# EAGLE library part 24PINSMT (library scono)
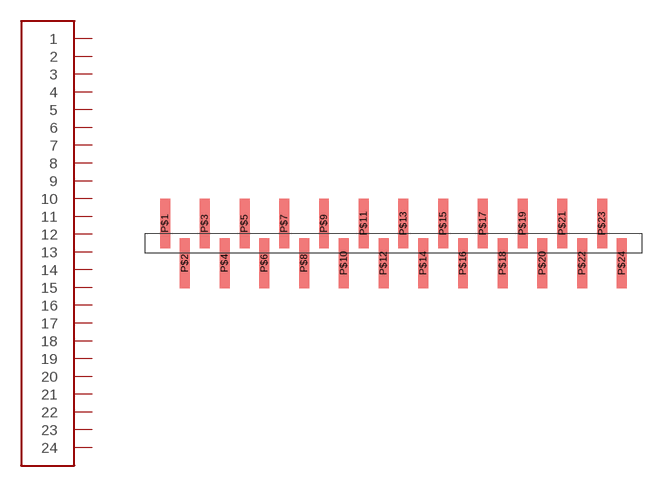
[diagram p25: symbol with the pads of 24SMT; footprint 24SMT]

Designator prefix -

## 24PINSMT  [24SMT]
P$1  1
P$2  2
P$3  3
P$4  4
P$5  5
P$6  6
P$7  7
P$8  8
P$9  9
P$10  10
P$11  11
P$12  12
P$13  13
P$14  14
P$15  15
P$16  16
P$17  17
P$18  18
P$19  19
P$20  20
P$21  21
P$22  22
P$23  23
P$24  24

## Footprint 24SMT (pad centres in mm)
smd 1.27 x 6.35: P$1 -1.27,2.54; P$2 1.27,-2.54; P$3 3.81,2.54; P$4 6.35,-2.54; P$5 8.89,2.54; P$6 11.43,-2.54; P$7 13.97,2.54; P$8 16.51,-2.54; P$9 19.05,2.54; P$10 21.59,-2.54; P$11 24.13,2.54; P$12 26.67,-2.54; P$13 29.21,2.54; P$14 31.75,-2.54; P$15 34.29,2.54; P$16 36.83,-2.54; P$17 39.37,2.54; P$18 41.91,-2.54; P$19 44.45,2.54; P$20 46.99,-2.54; P$21 49.53,2.54; P$22 52.07,-2.54; P$23 54.61,2.54; P$24 57.15,-2.54